# Altium footprint library B72214P2351K101.PcbLib: 1 footprints
Each footprint in its own frame and in the unit in brackets; x right, y up, seen from the top. Pads: shape width x height; smd on the part's side, far side on the other; paste and mask are expansions set on the pad; w line width, h text height; cw(c..) or ccw(c..) is an arc to the next point about the centre after c.
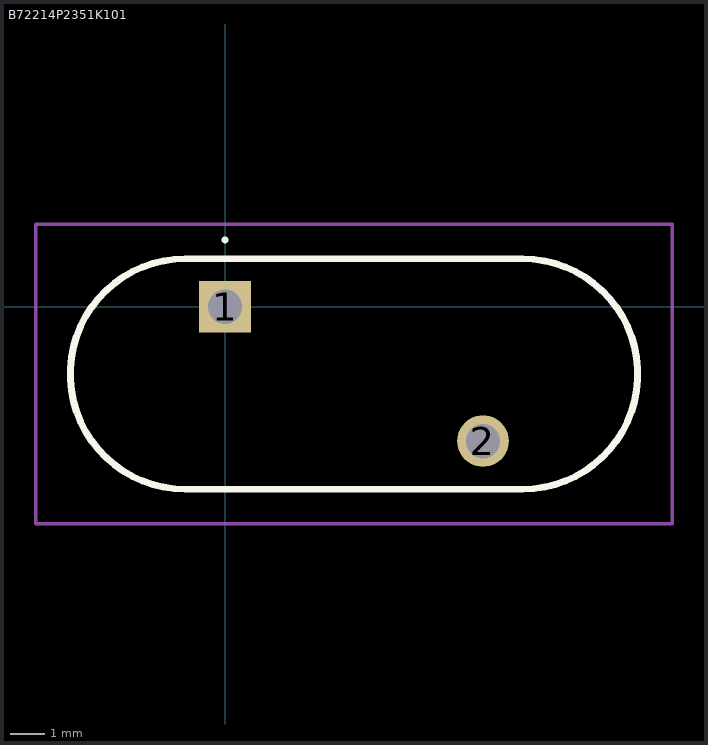
[diagram p0: the footprint, top view; thin cyan lines are the x and y axes]

## B72214P2351K101 [mm]
pads (2):
  rect 1.5x1.5 hole 1: 1(0,0)
  round 1.5 hole 1: 2(7.5,-3.9)
Top Overlay:
  lines w0.1: 0,1.9 cw(c0,1.95) 0,2 ; 0,1.9 0,1.9 ; 0,1.9 ccw(c0,1.95) 0,2 ; 0,2 0,2
  lines w0.2: -1.15,1.4 -1.15,1.4 ; -1.15,1.4 ccw(c-1.15,-1.95) -1.15,-5.3 8.65,-5.3 ; -1.15,1.4 8.65,1.4 cw(c8.65,-1.95) 8.65,-5.3 ; 8.65,-5.3 8.65,-5.3
Mechanical 15:
  lines w0.1: -1.15,-5.3 8.65,-5.3 ccw(c8.65,-1.95) 8.65,1.4 ; -1.15,-5.3 -1.15,-5.3 ; -1.15,-5.3 cw(c-1.15,-1.95) -1.15,1.4 8.65,1.4 ; 8.65,1.4 8.65,1.4
Mechanical 20:
  lines w0.1: -5.5,-6.3 13,-6.3 13,2.4 -5.5,2.4 -5.5,-6.3
3D body "B72214P2351K101.stp": height 5.8, standoff -4.65, extent -10,-3.376 10,3.376